# Altium footprint library PcbLib1.PcbLib: 6 footprints
Each footprint in its own frame and in the unit in brackets; x right, y up, seen from the top. Pads: shape width x height; smd on the part's side, far side on the other; paste and mask are expansions set on the pad; w line width, h text height; cw(c..) or ccw(c..) is an arc to the next point about the centre after c.
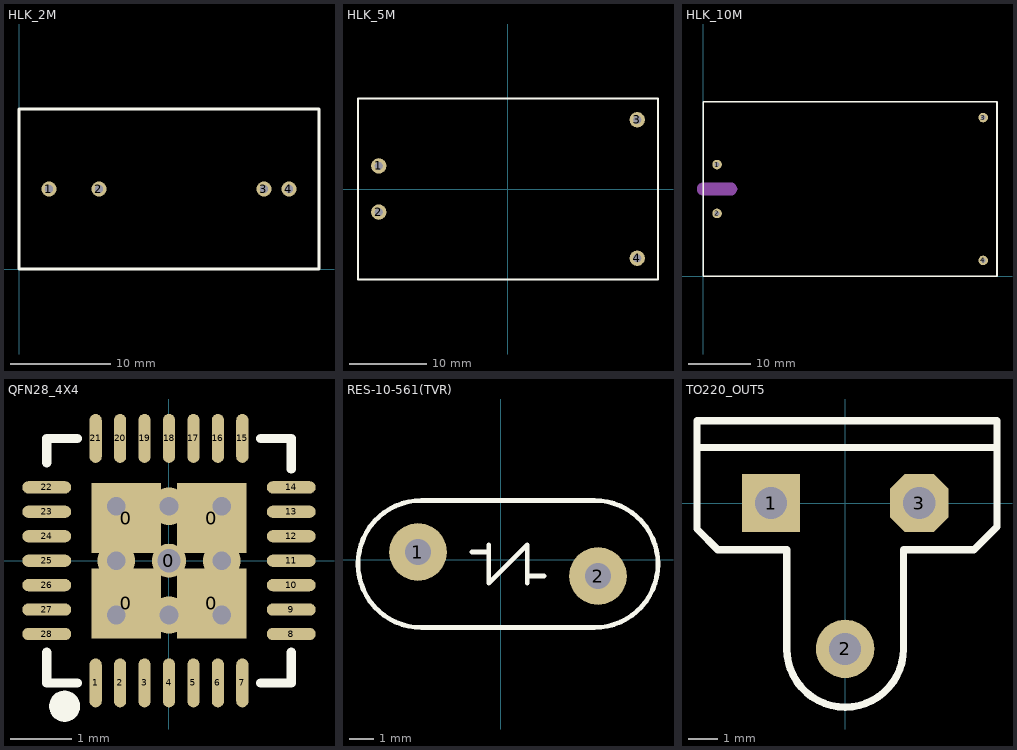
[diagram p0: the footprints below, top view; thin cyan lines are the x and y axes]

## HLK_2M [mm]
pads (4):
  round 1.5 hole 0.8: 1(3,8) 2(8,8) 3(24.5,8) 4(27,8)
Top Overlay:
  lines w0.254: 0,0 0,16 30,16 30,0 0,0

## HLK_5M [mm]
pads (4):
  round 2 hole 1: 1(-16.8,3) 2(-16.8,-3) 3(16.8,9) 4(16.8,-9)
Top Overlay:
  lines w0.254: -19.5,-11.75 -19.5,11.75 19.5,11.75 19.5,-11.75 -19.5,-11.75

## HLK_10M [mil]
pads (4):
  round 60 hole 30: 1(86.61,700.79) 2(86.61,393.7) 3(1759.84,996.06) 4(1759.84,98.43)
Top Overlay:
  lines w10: 0,0 1846.46,0 1846.46,1094.49 0,1094.49 0,0
Mechanical 1:
  region: 0,507.86 -5.19,507.86 -15.2,510.54 -24.18,515.73 -31.52,523.06 -36.7,532.04 -39.39,542.06 -39.39,552.43 -36.7,562.45 -31.52,571.43 -24.18,578.76 -15.2,583.95 -5.19,586.63 0,586.63 173.23,586.63 177.11,586.63 184.72,585.12 191.88,582.15 198.33,577.84 203.82,572.35 208.13,565.9 211.1,558.73 212.61,551.12 212.61,547.24 212.61,543.37 211.1,535.76 208.13,528.59 203.82,522.14 198.33,516.65 191.88,512.34 184.72,509.37 177.11,507.86 173.23,507.86
  lines w78.74: 0,547.24 173.23,547.24

## QFN28_4X4 [mm]
pads (33):
  rect 1.143x1.143 smd mask+0: 0(-0.699,-0.699) 0(-0.699,0.698) 0(0.699,-0.699) 0(0.699,0.698)
  round 0.559 hole 0.381 mask+0.102: 0(0,0)
  oval 0.2x0.8 smd: 1(-1.2,-2) 2(-0.8,-2) 3(-0.4,-2) 4(0,-2) 5(0.4,-2) 6(0.8,-2) 7(1.2,-2) 15(1.2,2) 16(0.8,2) 17(0.4,2) 18(0,2) 19(-0.4,2) 20(-0.8,2) 21(-1.2,2)
  oval 0.8x0.2 smd: 8(2,-1.2) 9(2,-0.8) 10(2,-0.4) 11(2,0) 12(2,0.4) 13(2,0.8) 14(2,1.2) 22(-2,1.2) 23(-2,0.8) 24(-2,0.4) 25(-2,0) 26(-2,-0.4) 27(-2,-0.8) 28(-2,-1.2)
via -0.864,-0.889 diameter 0.61 hole 0.305
via 0.864,-0.889 diameter 0.61 hole 0.305
via 0.864,0.889 diameter 0.61 hole 0.305
via -0.864,0.889 diameter 0.61 hole 0.305
via -0.864,0 diameter 0.61 hole 0.305
via 0.864,0 diameter 0.61 hole 0.305
via 0,-0.889 diameter 0.61 hole 0.305
via 0,0.889 diameter 0.61 hole 0.305
Top Overlay:
  circle w0.254: c-1.708,-2.381 r0.127
  lines w0.152: -2,-1.5 -2,-2 -1.5,-2 ; -2,1.6 -2,2 -1.5,2 ; 1.5,-2 2,-2 2,-1.5 ; 1.5,2 2,2 2,1.5

## RES-10-561(TVR) [mm]
pads (2):
  round 2.4 hole 1.1: 1(-3.45,0.325) 2(4.05,-0.675)
Top Overlay:
  lines w0.2: -1.2,0.325 -0.5,0.325 ; -0.5,0.625 -0.5,-0.975 1.1,0.625 1.1,-0.975 ; 1.1,-0.675 1.8,-0.675 ; -3.3,-2.825 cw(c-3.3,-0.175) -3.3,2.475 3.9,2.475 cw(c3.9,-0.175) 3.9,-2.825 -3.3,-2.825

## TO220_OUT5 [mm] "220，3脚晶体管，踢出5mm"
height 0.5
pads (3):
  rect 2x2 hole 1.1: 1(-2.54,0)
  round 2 hole 1.1: 2(0,-5)
  oct 2x2 hole 1.1: 3(2.54,0)
Top Overlay:
  lines w0.25: -2,-5 ccw(c0,-5) 0,-7 ccw(c0,-5) 2,-5
  lines w0.254: -4.928,1.905 5.131,1.905 ; -2,-5 -2,-1.6 -4.369,-1.6 -5.08,-0.889 -5.08,2.819 5.207,2.819 5.207,-0.813 4.42,-1.6 ; 2,-5 2,-1.6 4.369,-1.6